# Altium footprint library BASIC Library.PCBLIB: 464 footprints (part 25 of 30)
Each footprint in its own frame and in the unit in brackets; x right, y up, seen from the top. Pads: shape width x height; smd on the part's side, far side on the other; paste and mask are expansions set on the pad; w line width, h text height; cw(c..) or ccw(c..) is an arc to the next point about the centre after c.
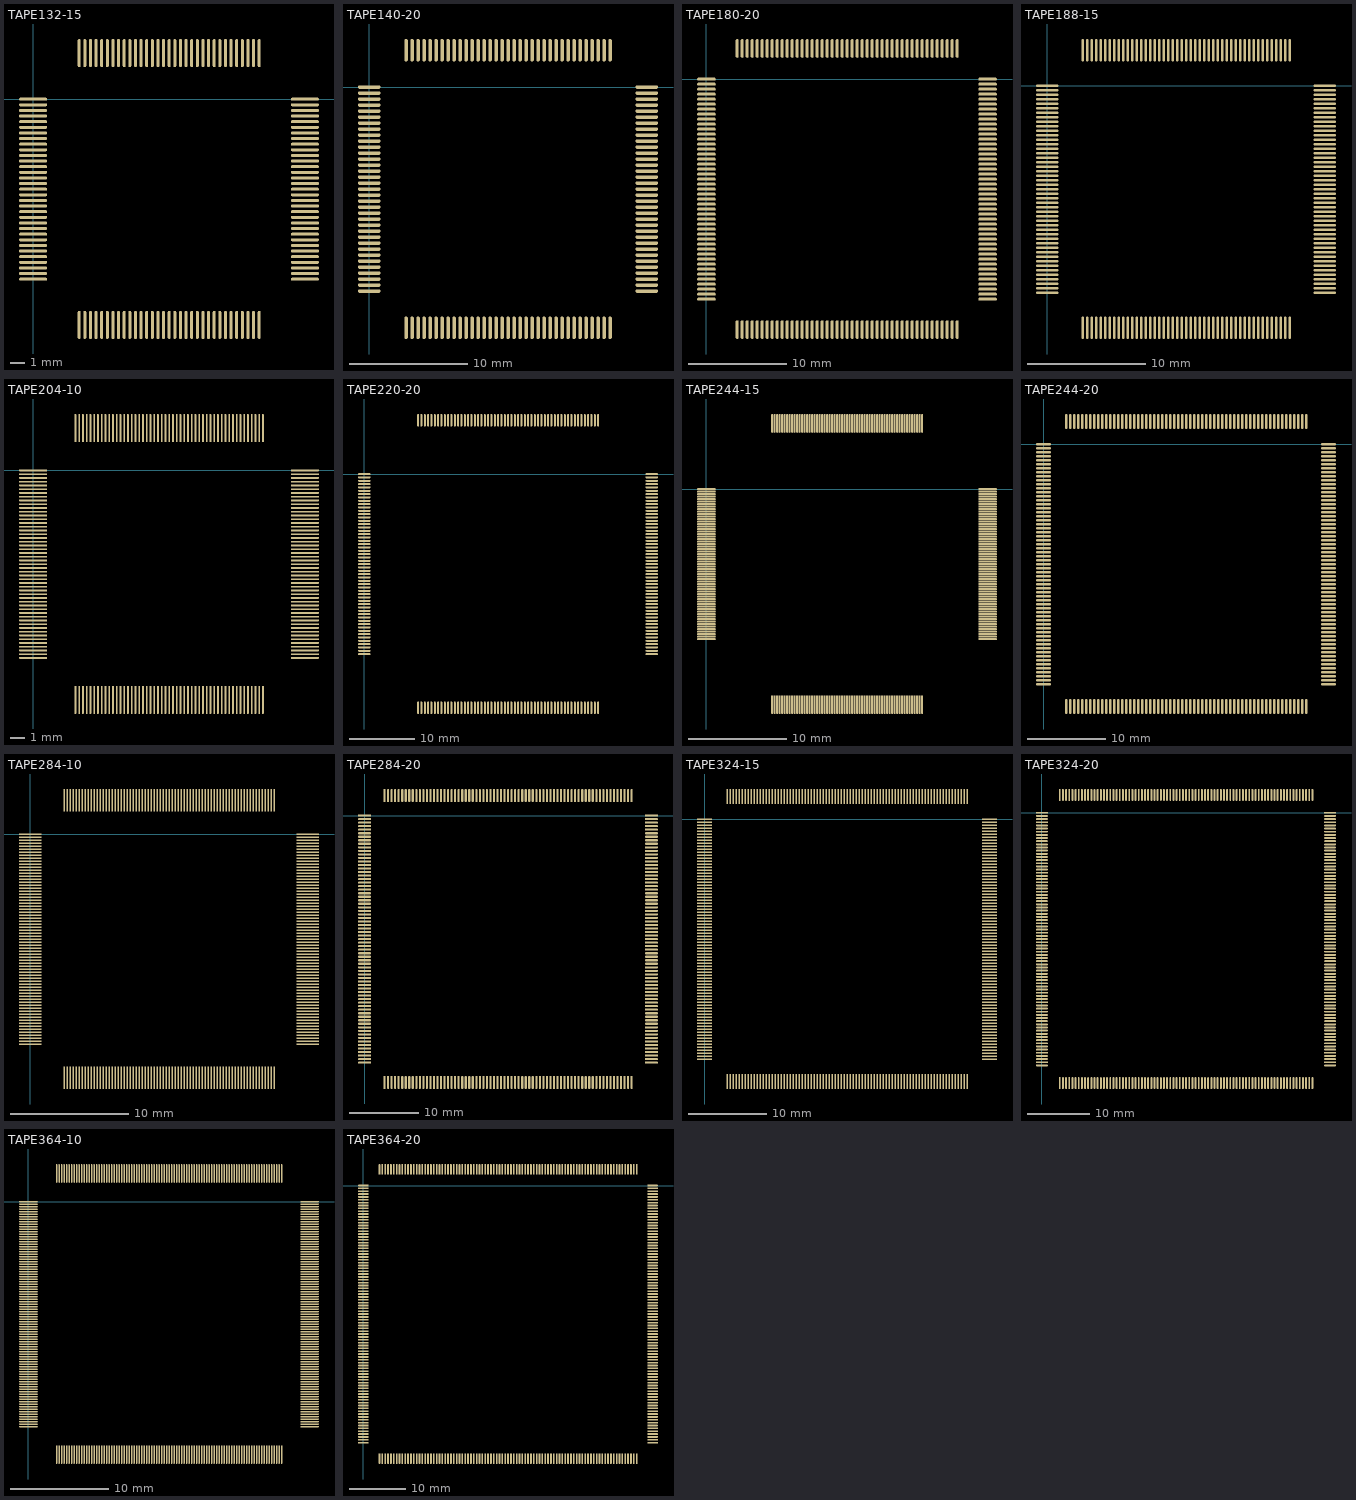
[diagram p24: the footprints below, top view; thin cyan lines are the x and y axes]

## TAPE132-15 [mil]
pads (132):
  oval 75x8 smd: 1(0,0) 2(0,-15) 3(0,-30) 4(0,-45) 5(0,-60) 6(0,-75) 7(0,-90) 8(0,-105) 9(0,-120) 10(0,-135) 11(0,-150) 12(0,-165) 13(0,-180) 14(0,-195) 15(0,-210) 16(0,-225) 17(0,-240) 18(0,-255) 19(0,-270) 20(0,-285) 21(0,-300) 22(0,-315) 23(0,-330) 24(0,-345) 25(0,-360) 26(0,-375) 27(0,-390) 28(0,-405) 29(0,-420) 30(0,-435) 31(0,-450) 32(0,-465) 33(0,-480) 67(725,-480) 68(725,-465) 69(725,-450) 70(725,-435) 71(725,-420) 72(725,-405) 73(725,-390) 74(725,-375) 75(725,-360) 76(725,-345) 77(725,-330) 78(725,-315) 79(725,-300) 80(725,-285) 81(725,-270) 82(725,-255) 83(725,-240) 84(725,-225) 85(725,-210) 86(725,-195) 87(725,-180) 88(725,-165) 89(725,-150) 90(725,-135) 91(725,-120) 92(725,-105) 93(725,-90) 94(725,-75) 95(725,-60) 96(725,-45) 97(725,-30) 98(725,-15) 99(725,0)
  oval 8x75 smd: 34(123,-602) 35(138,-602) 36(153,-602) 37(168,-602) 38(183,-602) 39(198,-602) 40(213,-602) 41(228,-602) 42(243,-602) 43(258,-602) 44(273,-602) 45(288,-602) 46(303,-602) 47(318,-602) 48(333,-602) 49(348,-602) 50(363,-602) 51(378,-602) 52(393,-602) 53(408,-602) 54(423,-602) 55(438,-602) 56(453,-602) 57(468,-602) 58(483,-602) 59(498,-602) 60(513,-602) 61(528,-602) 62(543,-602) 63(558,-602) 64(573,-602) 65(588,-602) 66(603,-602) 100(603,123) 101(588,123) 102(573,123) 103(558,123) 104(543,123) 105(528,123) 106(513,123) 107(498,123) 108(483,123) 109(468,123) 110(453,123) 111(438,123) 112(423,123) 113(408,123) 114(393,123) 115(378,123) 116(363,123) 117(348,123) 118(333,123) 119(318,123) 120(303,123) 121(288,123) 122(273,123) 123(258,123) 124(243,123) 125(228,123) 126(213,123) 127(198,123) 128(183,123) 129(168,123) 130(153,123) 131(138,123) 132(123,123)

## TAPE140-20 [mil]
pads (140):
  oval 75x12 smd: 1(0,0) 2(0,-20) 3(0,-40) 4(0,-60) 5(0,-80) 6(0,-100) 7(0,-120) 8(0,-140) 9(0,-160) 10(0,-180) 11(0,-200) 12(0,-220) 13(0,-240) 14(0,-260) 15(0,-280) 16(0,-300) 17(0,-320) 18(0,-340) 19(0,-360) 20(0,-380) 21(0,-400) 22(0,-420) 23(0,-440) 24(0,-460) 25(0,-480) 26(0,-500) 27(0,-520) 28(0,-540) 29(0,-560) 30(0,-580) 31(0,-600) 32(0,-620) 33(0,-640) 34(0,-660) 35(0,-680) 71(925,-680) 72(925,-660) 73(925,-640) 74(925,-620) 75(925,-600) 76(925,-580) 77(925,-560) 78(925,-540) 79(925,-520) 80(925,-500) 81(925,-480) 82(925,-460) 83(925,-440) 84(925,-420) 85(925,-400) 86(925,-380) 87(925,-360) 88(925,-340) 89(925,-320) 90(925,-300) 91(925,-280) 92(925,-260) 93(925,-240) 94(925,-220) 95(925,-200) 96(925,-180) 97(925,-160) 98(925,-140) 99(925,-120) 100(925,-100) 101(925,-80) 102(925,-60) 103(925,-40) 104(925,-20) 105(925,0)
  oval 12x75 smd: 36(123,-802) 37(143,-802) 38(163,-802) 39(183,-802) 40(203,-802) 41(223,-802) 42(243,-802) 43(263,-802) 44(283,-802) 45(303,-802) 46(323,-802) 47(343,-802) 48(363,-802) 49(383,-802) 50(403,-802) 51(423,-802) 52(443,-802) 53(463,-802) 54(483,-802) 55(503,-802) 56(523,-802) 57(543,-802) 58(563,-802) 59(583,-802) 60(603,-802) 61(623,-802) 62(643,-802) 63(663,-802) 64(683,-802) 65(703,-802) 66(723,-802) 67(743,-802) 68(763,-802) 69(783,-802) 70(803,-802) 106(803,123) 107(783,123) 108(763,123) 109(743,123) 110(723,123) 111(703,123) 112(683,123) 113(663,123) 114(643,123) 115(623,123) 116(603,123) 117(583,123) 118(563,123) 119(543,123) 120(523,123) 121(503,123) 122(483,123) 123(463,123) 124(443,123) 125(423,123) 126(403,123) 127(383,123) 128(363,123) 129(343,123) 130(323,123) 131(303,123) 132(283,123) 133(263,123) 134(243,123) 135(223,123) 136(203,123) 137(183,123) 138(163,123) 139(143,123) 140(123,123)

## TAPE180-20 [mil]
pads (180):
  oval 75x12 smd: 1(0,0) 2(0,-20) 3(0,-40) 4(0,-60) 5(0,-80) 6(0,-100) 7(0,-120) 8(0,-140) 9(0,-160) 10(0,-180) 11(0,-200) 12(0,-220) 13(0,-240) 14(0,-260) 15(0,-280) 16(0,-300) 17(0,-320) 18(0,-340) 19(0,-360) 20(0,-380) 21(0,-400) 22(0,-420) 23(0,-440) 24(0,-460) 25(0,-480) 26(0,-500) 27(0,-520) 28(0,-540) 29(0,-560) 30(0,-580) 31(0,-600) 32(0,-620) 33(0,-640) 34(0,-660) 35(0,-680) 36(0,-700) 37(0,-720) 38(0,-740) 39(0,-760) 40(0,-780) 41(0,-800) 42(0,-820) 43(0,-840) 44(0,-860) 45(0,-880) 91(1125,-880) 92(1125,-860) 93(1125,-840) 94(1125,-820) 95(1125,-800) 96(1125,-780) 97(1125,-760) 98(1125,-740) 99(1125,-720) 100(1125,-700) 101(1125,-680) 102(1125,-660) 103(1125,-640) 104(1125,-620) 105(1125,-600) 106(1125,-580) 107(1125,-560) 108(1125,-540) 109(1125,-520) 110(1125,-500) 111(1125,-480) 112(1125,-460) 113(1125,-440) 114(1125,-420) 115(1125,-400) 116(1125,-380) 117(1125,-360) 118(1125,-340) 119(1125,-320) 120(1125,-300) 121(1125,-280) 122(1125,-260) 123(1125,-240) 124(1125,-220) 125(1125,-200) 126(1125,-180) 127(1125,-160) 128(1125,-140) 129(1125,-120) 130(1125,-100) 131(1125,-80) 132(1125,-60) 133(1125,-40) 134(1125,-20) 135(1125,0)
  oval 12x75 smd: 46(123,-1002) 47(143,-1002) 48(163,-1002) 49(183,-1002) 50(203,-1002) 51(223,-1002) 52(243,-1002) 53(263,-1002) 54(283,-1002) 55(303,-1002) 56(323,-1002) 57(343,-1002) 58(363,-1002) 59(383,-1002) 60(403,-1002) 61(423,-1002) 62(443,-1002) 63(463,-1002) 64(483,-1002) 65(503,-1002) 66(523,-1002) 67(543,-1002) 68(563,-1002) 69(583,-1002) 70(603,-1002) 71(623,-1002) 72(643,-1002) 73(663,-1002) 74(683,-1002) 75(703,-1002) 76(723,-1002) 77(743,-1002) 78(763,-1002) 79(783,-1002) 80(803,-1002) 81(823,-1002) 82(843,-1002) 83(863,-1002) 84(883,-1002) 85(903,-1002) 86(923,-1002) 87(943,-1002) 88(963,-1002) 89(983,-1002) 90(1003,-1002) 136(1003,123) 137(983,123) 138(963,123) 139(943,123) 140(923,123) 141(903,123) 142(883,123) 143(863,123) 144(843,123) 145(823,123) 146(803,123) 147(783,123) 148(763,123) 149(743,123) 150(723,123) 151(703,123) 152(683,123) 153(663,123) 154(643,123) 155(623,123) 156(603,123) 157(583,123) 158(563,123) 159(543,123) 160(523,123) 161(503,123) 162(483,123) 163(463,123) 164(443,123) 165(423,123) 166(403,123) 167(383,123) 168(363,123) 169(343,123) 170(323,123) 171(303,123) 172(283,123) 173(263,123) 174(243,123) 175(223,123) 176(203,123) 177(183,123) 178(163,123) 179(143,123) 180(123,123)

## TAPE188-15 [mil]
pads (188):
  oval 75x8 smd: 1(0,0) 2(0,-15) 3(0,-30) 4(0,-45) 5(0,-60) 6(0,-75) 7(0,-90) 8(0,-105) 9(0,-120) 10(0,-135) 11(0,-150) 12(0,-165) 13(0,-180) 14(0,-195) 15(0,-210) 16(0,-225) 17(0,-240) 18(0,-255) 19(0,-270) 20(0,-285) 21(0,-300) 22(0,-315) 23(0,-330) 24(0,-345) 25(0,-360) 26(0,-375) 27(0,-390) 28(0,-405) 29(0,-420) 30(0,-435) 31(0,-450) 32(0,-465) 33(0,-480) 34(0,-495) 35(0,-510) 36(0,-525) 37(0,-540) 38(0,-555) 39(0,-570) 40(0,-585) 41(0,-600) 42(0,-615) 43(0,-630) 44(0,-645) 45(0,-660) 46(0,-675) 47(0,-690) 95(925,-690) 96(925,-675) 97(925,-660) 98(925,-645) 99(925,-630) 100(925,-615) 101(925,-600) 102(925,-585) 103(925,-570) 104(925,-555) 105(925,-540) 106(925,-525) 107(925,-510) 108(925,-495) 109(925,-480) 110(925,-465) 111(925,-450) 112(925,-435) 113(925,-420) 114(925,-405) 115(925,-390) 116(925,-375) 117(925,-360) 118(925,-345) 119(925,-330) 120(925,-315) 121(925,-300) 122(925,-285) 123(925,-270) 124(925,-255) 125(925,-240) 126(925,-225) 127(925,-210) 128(925,-195) 129(925,-180) 130(925,-165) 131(925,-150) 132(925,-135) 133(925,-120) 134(925,-105) 135(925,-90) 136(925,-75) 137(925,-60) 138(925,-45) 139(925,-30) 140(925,-15) 141(925,0)
  oval 8x75 smd: 48(118,-807) 49(133,-807) 50(148,-807) 51(163,-807) 52(178,-807) 53(193,-807) 54(208,-807) 55(223,-807) 56(238,-807) 57(253,-807) 58(268,-807) 59(283,-807) 60(298,-807) 61(313,-807) 62(328,-807) 63(343,-807) 64(358,-807) 65(373,-807) 66(388,-807) 67(403,-807) 68(418,-807) 69(433,-807) 70(448,-807) 71(463,-807) 72(478,-807) 73(493,-807) 74(508,-807) 75(523,-807) 76(538,-807) 77(553,-807) 78(568,-807) 79(583,-807) 80(598,-807) 81(613,-807) 82(628,-807) 83(643,-807) 84(658,-807) 85(673,-807) 86(688,-807) 87(703,-807) 88(718,-807) 89(733,-807) 90(748,-807) 91(763,-807) 92(778,-807) 93(793,-807) 94(808,-807) 142(808,118) 143(793,118) 144(778,118) 145(763,118) 146(748,118) 147(733,118) 148(718,118) 149(703,118) 150(688,118) 151(673,118) 152(658,118) 153(643,118) 154(628,118) 155(613,118) 156(598,118) 157(583,118) 158(568,118) 159(553,118) 160(538,118) 161(523,118) 162(508,118) 163(493,118) 164(478,118) 165(463,118) 166(448,118) 167(433,118) 168(418,118) 169(403,118) 170(388,118) 171(373,118) 172(358,118) 173(343,118) 174(328,118) 175(313,118) 176(298,118) 177(283,118) 178(268,118) 179(253,118) 180(238,118) 181(223,118) 182(208,118) 183(193,118) 184(178,118) 185(163,118) 186(148,118) 187(133,118) 188(118,118)

## TAPE204-10 [mil]
pads (204):
  oval 75x5 smd: 1(0,0) 2(0,-10) 3(0,-20) 4(0,-30) 5(0,-40) 6(0,-50) 7(0,-60) 8(0,-70) 9(0,-80) 10(0,-90) 11(0,-100) 12(0,-110) 13(0,-120) 14(0,-130) 15(0,-140) 16(0,-150) 17(0,-160) 18(0,-170) 19(0,-180) 20(0,-190) 21(0,-200) 22(0,-210) 23(0,-220) 24(0,-230) 25(0,-240) 26(0,-250) 27(0,-260) 28(0,-270) 29(0,-280) 30(0,-290) 31(0,-300) 32(0,-310) 33(0,-320) 34(0,-330) 35(0,-340) 36(0,-350) 37(0,-360) 38(0,-370) 39(0,-380) 40(0,-390) 41(0,-400) 42(0,-410) 43(0,-420) 44(0,-430) 45(0,-440) 46(0,-450) 47(0,-460) 48(0,-470) 49(0,-480) 50(0,-490) 51(0,-500) 103(725,-500) 104(725,-490) 105(725,-480) 106(725,-470) 107(725,-460) 108(725,-450) 109(725,-440) 110(725,-430) 111(725,-420) 112(725,-410) 113(725,-400) 114(725,-390) 115(725,-380) 116(725,-370) 117(725,-360) 118(725,-350) 119(725,-340) 120(725,-330) 121(725,-320) 122(725,-310) 123(725,-300) 124(725,-290) 125(725,-280) 126(725,-270) 127(725,-260) 128(725,-250) 129(725,-240) 130(725,-230) 131(725,-220) 132(725,-210) 133(725,-200) 134(725,-190) 135(725,-180) 136(725,-170) 137(725,-160) 138(725,-150) 139(725,-140) 140(725,-130) 141(725,-120) 142(725,-110) 143(725,-100) 144(725,-90) 145(725,-80) 146(725,-70) 147(725,-60) 148(725,-50) 149(725,-40) 150(725,-30) 151(725,-20) 152(725,-10) 153(725,0)
  oval 5x75 smd: 52(113,-612) 53(123,-612) 54(133,-612) 55(143,-612) 56(153,-612) 57(163,-612) 58(173,-612) 59(183,-612) 60(193,-612) 61(203,-612) 62(213,-612) 63(223,-612) 64(233,-612) 65(243,-612) 66(253,-612) 67(263,-612) 68(273,-612) 69(283,-612) 70(293,-612) 71(303,-612) 72(313,-612) 73(323,-612) 74(333,-612) 75(343,-612) 76(353,-612) 77(363,-612) 78(373,-612) 79(383,-612) 80(393,-612) 81(403,-612) 82(413,-612) 83(423,-612) 84(433,-612) 85(443,-612) 86(453,-612) 87(463,-612) 88(473,-612) 89(483,-612) 90(493,-612) 91(503,-612) 92(513,-612) 93(523,-612) 94(533,-612) 95(543,-612) 96(553,-612) 97(563,-612) 98(573,-612) 99(583,-612) 100(593,-612) 101(603,-612) 102(613,-612) 154(613,113) 155(603,113) 156(593,113) 157(583,113) 158(573,113) 159(563,113) 160(553,113) 161(543,113) 162(533,113) 163(523,113) 164(513,113) 165(503,113) 166(493,113) 167(483,113) 168(473,113) 169(463,113) 170(453,113) 171(443,113) 172(433,113) 173(423,113) 174(413,113) 175(403,113) 176(393,113) 177(383,113) 178(373,113) 179(363,113) 180(353,113) 181(343,113) 182(333,113) 183(323,113) 184(313,113) 185(303,113) 186(293,113) 187(283,113) 188(273,113) 189(263,113) 190(253,113) 191(243,113) 192(233,113) 193(223,113) 194(213,113) 195(203,113) 196(193,113) 197(183,113) 198(173,113) 199(163,113) 200(153,113) 201(143,113) 202(133,113) 203(123,113) 204(113,113)

## TAPE220-20 [mil]
pads (220):
  oval 75x12 smd: 1(0,0) 2(0,-20) 3(0,-40) 4(0,-60) 5(0,-80) 6(0,-100) 7(0,-120) 8(0,-140) 9(0,-160) 10(0,-180) 11(0,-200) 12(0,-220) 13(0,-240) 14(0,-260) 15(0,-280) 16(0,-300) 17(0,-320) 18(0,-340) 19(0,-360) 20(0,-380) 21(0,-400) 22(0,-420) 23(0,-440) 24(0,-460) 25(0,-480) 26(0,-500) 27(0,-520) 28(0,-540) 29(0,-560) 30(0,-580) 31(0,-600) 32(0,-620) 33(0,-640) 34(0,-660) 35(0,-680) 36(0,-700) 37(0,-720) 38(0,-740) 39(0,-760) 40(0,-780) 41(0,-800) 42(0,-820) 43(0,-840) 44(0,-860) 45(0,-880) 46(0,-900) 47(0,-920) 48(0,-940) 49(0,-960) 50(0,-980) 51(0,-1000) 52(0,-1020) 53(0,-1040) 54(0,-1060) 55(0,-1080) 111(1725,-1080) 112(1725,-1060) 113(1725,-1040) 114(1725,-1020) 115(1725,-1000) 116(1725,-980) 117(1725,-960) 118(1725,-940) 119(1725,-920) 120(1725,-900) 121(1725,-880) 122(1725,-860) 123(1725,-840) 124(1725,-820) 125(1725,-800) 126(1725,-780) 127(1725,-760) 128(1725,-740) 129(1725,-720) 130(1725,-700) 131(1725,-680) 132(1725,-660) 133(1725,-640) 134(1725,-620) 135(1725,-600) 136(1725,-580) 137(1725,-560) 138(1725,-540) 139(1725,-520) 140(1725,-500) 141(1725,-480) 142(1725,-460) 143(1725,-440) 144(1725,-420) 145(1725,-400) 146(1725,-380) 147(1725,-360) 148(1725,-340) 149(1725,-320) 150(1725,-300) 151(1725,-280) 152(1725,-260) 153(1725,-240) 154(1725,-220) 155(1725,-200) 156(1725,-180) 157(1725,-160) 158(1725,-140) 159(1725,-120) 160(1725,-100) 161(1725,-80) 162(1725,-60) 163(1725,-40) 164(1725,-20) 165(1725,0)
  oval 12x75 smd: 56(323,-1402) 57(343,-1402) 58(363,-1402) 59(383,-1402) 60(403,-1402) 61(423,-1402) 62(443,-1402) 63(463,-1402) 64(483,-1402) 65(503,-1402) 66(523,-1402) 67(543,-1402) 68(563,-1402) 69(583,-1402) 70(603,-1402) 71(623,-1402) 72(643,-1402) 73(663,-1402) 74(683,-1402) 75(703,-1402) 76(723,-1402) 77(743,-1402) 78(763,-1402) 79(783,-1402) 80(803,-1402) 81(823,-1402) 82(843,-1402) 83(863,-1402) 84(883,-1402) 85(903,-1402) 86(923,-1402) 87(943,-1402) 88(963,-1402) 89(983,-1402) 90(1003,-1402) 91(1023,-1402) 92(1043,-1402) 93(1063,-1402) 94(1083,-1402) 95(1103,-1402) 96(1123,-1402) 97(1143,-1402) 98(1163,-1402) 99(1183,-1402) 100(1203,-1402) 101(1223,-1402) 102(1243,-1402) 103(1263,-1402) 104(1283,-1402) 105(1303,-1402) 106(1323,-1402) 107(1343,-1402) 108(1363,-1402) 109(1383,-1402) 110(1403,-1402) 166(1403,323) 167(1383,323) 168(1363,323) 169(1343,323) 170(1323,323) 171(1303,323) 172(1283,323) 173(1263,323) 174(1243,323) 175(1223,323) 176(1203,323) 177(1183,323) 178(1163,323) 179(1143,323) 180(1123,323) 181(1103,323) 182(1083,323) 183(1063,323) 184(1043,323) 185(1023,323) 186(1003,323) 187(983,323) 188(963,323) 189(943,323) 190(923,323) 191(903,323) 192(883,323) 193(863,323) 194(843,323) 195(823,323) 196(803,323) 197(783,323) 198(763,323) 199(743,323) 200(723,323) 201(703,323) 202(683,323) 203(663,323) 204(643,323) 205(623,323) 206(603,323) 207(583,323) 208(563,323) 209(543,323) 210(523,323) 211(503,323) 212(483,323) 213(463,323) 214(443,323) 215(423,323) 216(403,323) 217(383,323) 218(363,323) 219(343,323) 220(323,323)

## TAPE244-15 [mil]
pads (244):
  oval 75x8 smd: 1(0,0) 2(0,-10) 3(0,-20) 4(0,-30) 5(0,-40) 6(0,-50) 7(0,-60) 8(0,-70) 9(0,-80) 10(0,-90) 11(0,-100) 12(0,-110) 13(0,-120) 14(0,-130) 15(0,-140) 16(0,-150) 17(0,-160) 18(0,-170) 19(0,-180) 20(0,-190) 21(0,-200) 22(0,-210) 23(0,-220) 24(0,-230) 25(0,-240) 26(0,-250) 27(0,-260) 28(0,-270) 29(0,-280) 30(0,-290) 31(0,-300) 32(0,-310) 33(0,-320) 34(0,-330) 35(0,-340) 36(0,-350) 37(0,-360) 38(0,-370) 39(0,-380) 40(0,-390) 41(0,-400) 42(0,-410) 43(0,-420) 44(0,-430) 45(0,-440) 46(0,-450) 47(0,-460) 48(0,-470) 49(0,-480) 50(0,-490) 51(0,-500) 52(0,-510) 53(0,-520) 54(0,-530) 55(0,-540) 56(0,-550) 57(0,-560) 58(0,-570) 59(0,-580) 60(0,-590) 61(0,-600) 123(1125,-600) 124(1125,-590) 125(1125,-580) 126(1125,-570) 127(1125,-560) 128(1125,-550) 129(1125,-540) 130(1125,-530) 131(1125,-520) 132(1125,-510) 133(1125,-500) 134(1125,-490) 135(1125,-480) 136(1125,-470) 137(1125,-460) 138(1125,-450) 139(1125,-440) 140(1125,-430) 141(1125,-420) 142(1125,-410) 143(1125,-400) 144(1125,-390) 145(1125,-380) 146(1125,-370) 147(1125,-360) 148(1125,-350) 149(1125,-340) 150(1125,-330) 151(1125,-320) 152(1125,-310) 153(1125,-300) 154(1125,-290) 155(1125,-280) 156(1125,-270) 157(1125,-260) 158(1125,-250) 159(1125,-240) 160(1125,-230) 161(1125,-220) 162(1125,-210) 163(1125,-200) 164(1125,-190) 165(1125,-180) 166(1125,-170) 167(1125,-160) 168(1125,-150) 169(1125,-140) 170(1125,-130) 171(1125,-120) 172(1125,-110) 173(1125,-100) 174(1125,-90) 175(1125,-80) 176(1125,-70) 177(1125,-60) 178(1125,-50) 179(1125,-40) 180(1125,-30) 181(1125,-20) 182(1125,-10) 183(1125,0)
  oval 8x75 smd: 62(263,-862) 63(273,-862) 64(283,-862) 65(293,-862) 66(303,-862) 67(313,-862) 68(323,-862) 69(333,-862) 70(343,-862) 71(353,-862) 72(363,-862) 73(373,-862) 74(383,-862) 75(393,-862) 76(403,-862) 77(413,-862) 78(423,-862) 79(433,-862) 80(443,-862) 81(453,-862) 82(463,-862) 83(473,-862) 84(483,-862) 85(493,-862) 86(503,-862) 87(513,-862) 88(523,-862) 89(533,-862) 90(543,-862) 91(553,-862) 92(563,-862) 93(573,-862) 94(583,-862) 95(593,-862) 96(603,-862) 97(613,-862) 98(623,-862) 99(633,-862) 100(643,-862) 101(653,-862) 102(663,-862) 103(673,-862) 104(683,-862) 105(693,-862) 106(703,-862) 107(713,-862) 108(723,-862) 109(733,-862) 110(743,-862) 111(753,-862) 112(763,-862) 113(773,-862) 114(783,-862) 115(793,-862) 116(803,-862) 117(813,-862) 118(823,-862) 119(833,-862) 120(843,-862) 121(853,-862) 122(863,-862) 184(863,263) 185(853,263) 186(843,263) 187(833,263) 188(823,263) 189(813,263) 190(803,263) 191(793,263) 192(783,263) 193(773,263) 194(763,263) 195(753,263) 196(743,263) 197(733,263) 198(723,263) 199(713,263) 200(703,263) 201(693,263) 202(683,263) 203(673,263) 204(663,263) 205(653,263) 206(643,263) 207(633,263) 208(623,263) 209(613,263) 210(603,263) 211(593,263) 212(583,263) 213(573,263) 214(563,263) 215(553,263) 216(543,263) 217(533,263) 218(523,263) 219(513,263) 220(503,263) 221(493,263) 222(483,263) 223(473,263) 224(463,263) 225(453,263) 226(443,263) 227(433,263) 228(423,263) 229(413,263) 230(403,263) 231(393,263) 232(383,263) 233(373,263) 234(363,263) 235(353,263) 236(343,263) 237(333,263) 238(323,263) 239(313,263) 240(303,263) 241(293,263) 242(283,263) 243(273,263) 244(263,263)

## TAPE244-20 [mil]
pads (244):
  oval 75x12 smd: 1(0,0) 2(0,-20) 3(0,-40) 4(0,-60) 5(0,-80) 6(0,-100) 7(0,-120) 8(0,-140) 9(0,-160) 10(0,-180) 11(0,-200) 12(0,-220) 13(0,-240) 14(0,-260) 15(0,-280) 16(0,-300) 17(0,-320) 18(0,-340) 19(0,-360) 20(0,-380) 21(0,-400) 22(0,-420) 23(0,-440) 24(0,-460) 25(0,-480) 26(0,-500) 27(0,-520) 28(0,-540) 29(0,-560) 30(0,-580) 31(0,-600) 32(0,-620) 33(0,-640) 34(0,-660) 35(0,-680) 36(0,-700) 37(0,-720) 38(0,-740) 39(0,-760) 40(0,-780) 41(0,-800) 42(0,-820) 43(0,-840) 44(0,-860) 45(0,-880) 46(0,-900) 47(0,-920) 48(0,-940) 49(0,-960) 50(0,-980) 51(0,-1000) 52(0,-1020) 53(0,-1040) 54(0,-1060) 55(0,-1080) 56(0,-1100) 57(0,-1120) 58(0,-1140) 59(0,-1160) 60(0,-1180) 61(0,-1200) 123(1425,-1200) 124(1425,-1180) 125(1425,-1160) 126(1425,-1140) 127(1425,-1120) 128(1425,-1100) 129(1425,-1080) 130(1425,-1060) 131(1425,-1040) 132(1425,-1020) 133(1425,-1000) 134(1425,-980) 135(1425,-960) 136(1425,-940) 137(1425,-920) 138(1425,-900) 139(1425,-880) 140(1425,-860) 141(1425,-840) 142(1425,-820) 143(1425,-800) 144(1425,-780) 145(1425,-760) 146(1425,-740) 147(1425,-720) 148(1425,-700) 149(1425,-680) 150(1425,-660) 151(1425,-640) 152(1425,-620) 153(1425,-600) 154(1425,-580) 155(1425,-560) 156(1425,-540) 157(1425,-520) 158(1425,-500) 159(1425,-480) 160(1425,-460) 161(1425,-440) 162(1425,-420) 163(1425,-400) 164(1425,-380) 165(1425,-360) 166(1425,-340) 167(1425,-320) 168(1425,-300) 169(1425,-280) 170(1425,-260) 171(1425,-240) 172(1425,-220) 173(1425,-200) 174(1425,-180) 175(1425,-160) 176(1425,-140) 177(1425,-120) 178(1425,-100) 179(1425,-80) 180(1425,-60) 181(1425,-40) 182(1425,-20) 183(1425,0)
  oval 12x75 smd: 62(113,-1312) 63(133,-1312) 64(153,-1312) 65(173,-1312) 66(193,-1312) 67(213,-1312) 68(233,-1312) 69(253,-1312) 70(273,-1312) 71(293,-1312) 72(313,-1312) 73(333,-1312) 74(353,-1312) 75(373,-1312) 76(393,-1312) 77(413,-1312) 78(433,-1312) 79(453,-1312) 80(473,-1312) 81(493,-1312) 82(513,-1312) 83(533,-1312) 84(553,-1312) 85(573,-1312) 86(593,-1312) 87(613,-1312) 88(633,-1312) 89(653,-1312) 90(673,-1312) 91(693,-1312) 92(713,-1312) 93(733,-1312) 94(753,-1312) 95(773,-1312) 96(793,-1312) 97(813,-1312) 98(833,-1312) 99(853,-1312) 100(873,-1312) 101(893,-1312) 102(913,-1312) 103(933,-1312) 104(953,-1312) 105(973,-1312) 106(993,-1312) 107(1013,-1312) 108(1033,-1312) 109(1053,-1312) 110(1073,-1312) 111(1093,-1312) 112(1113,-1312) 113(1133,-1312) 114(1153,-1312) 115(1173,-1312) 116(1193,-1312) 117(1213,-1312) 118(1233,-1312) 119(1253,-1312) 120(1273,-1312) 121(1293,-1312) 122(1313,-1312) 184(1313,113) 185(1293,113) 186(1273,113) 187(1253,113) 188(1233,113) 189(1213,113) 190(1193,113) 191(1173,113) 192(1153,113) 193(1133,113) 194(1113,113) 195(1093,113) 196(1073,113) 197(1053,113) 198(1033,113) 199(1013,113) 200(993,113) 201(973,113) 202(953,113) 203(933,113) 204(913,113) 205(893,113) 206(873,113) 207(853,113) 208(833,113) 209(813,113) 210(793,113) 211(773,113) 212(753,113) 213(733,113) 214(713,113) 215(693,113) 216(673,113) 217(653,113) 218(633,113) 219(613,113) 220(593,113) 221(573,113) 222(553,113) 223(533,113) 224(513,113) 225(493,113) 226(473,113) 227(453,113) 228(433,113) 229(413,113) 230(393,113) 231(373,113) 232(353,113) 233(333,113) 234(313,113) 235(293,113) 236(273,113) 237(253,113) 238(233,113) 239(213,113) 240(193,113) 241(173,113) 242(153,113) 243(133,113) 244(113,113)

## TAPE284-10 [mil]
pads (284):
  oval 75x5 smd: 1(0,0) 2(0,-10) 3(0,-20) 4(0,-30) 5(0,-40) 6(0,-50) 7(0,-60) 8(0,-70) 9(0,-80) 10(0,-90) 11(0,-100) 12(0,-110) 13(0,-120) 14(0,-130) 15(0,-140) 16(0,-150) 17(0,-160) 18(0,-170) 19(0,-180) 20(0,-190) 21(0,-200) 22(0,-210) 23(0,-220) 24(0,-230) 25(0,-240) 26(0,-250) 27(0,-260) 28(0,-270) 29(0,-280) 30(0,-290) 31(0,-300) 32(0,-310) 33(0,-320) 34(0,-330) 35(0,-340) 36(0,-350) 37(0,-360) 38(0,-370) 39(0,-380) 40(0,-390) 41(0,-400) 42(0,-410) 43(0,-420) 44(0,-430) 45(0,-440) 46(0,-450) 47(0,-460) 48(0,-470) 49(0,-480) 50(0,-490) 51(0,-500) 52(0,-510) 53(0,-520) 54(0,-530) 55(0,-540) 56(0,-550) 57(0,-560) 58(0,-570) 59(0,-580) 60(0,-590) 61(0,-600) 62(0,-610) 63(0,-620) 64(0,-630) 65(0,-640) 66(0,-650) 67(0,-660) 68(0,-670) 69(0,-680) 70(0,-690) 71(0,-700) 143(925,-700) 144(925,-690) 145(925,-680) 146(925,-670) 147(925,-660) 148(925,-650) 149(925,-640) 150(925,-630) 151(925,-620) 152(925,-610) 153(925,-600) 154(925,-590) 155(925,-580) 156(925,-570) 157(925,-560) 158(925,-550) 159(925,-540) 160(925,-530) 161(925,-520) 162(925,-510) 163(925,-500) 164(925,-490) 165(925,-480) 166(925,-470) 167(925,-460) 168(925,-450) 169(925,-440) 170(925,-430) 171(925,-420) 172(925,-410) 173(925,-400) 174(925,-390) 175(925,-380) 176(925,-370) 177(925,-360) 178(925,-350) 179(925,-340) 180(925,-330) 181(925,-320) 182(925,-310) 183(925,-300) 184(925,-290) 185(925,-280) 186(925,-270) 187(925,-260) 188(925,-250) 189(925,-240) 190(925,-230) 191(925,-220) 192(925,-210) 193(925,-200) 194(925,-190) 195(925,-180) 196(925,-170) 197(925,-160) 198(925,-150) 199(925,-140) 200(925,-130) 201(925,-120) 202(925,-110) 203(925,-100) 204(925,-90) 205(925,-80) 206(925,-70) 207(925,-60) 208(925,-50) 209(925,-40) 210(925,-30) 211(925,-20) 212(925,-10) 213(925,0)
  oval 5x75 smd: 72(113,-812) 73(123,-812) 74(133,-812) 75(143,-812) 76(153,-812) 77(163,-812) 78(173,-812) 79(183,-812) 80(193,-812) 81(203,-812) 82(213,-812) 83(223,-812) 84(233,-812) 85(243,-812) 86(253,-812) 87(263,-812) 88(273,-812) 89(283,-812) 90(293,-812) 91(303,-812) 92(313,-812) 93(323,-812) 94(333,-812) 95(343,-812) 96(353,-812) 97(363,-812) 98(373,-812) 99(383,-812) 100(393,-812) 101(403,-812) 102(413,-812) 103(423,-812) 104(433,-812) 105(443,-812) 106(453,-812) 107(463,-812) 108(473,-812) 109(483,-812) 110(493,-812) 111(503,-812) 112(513,-812) 113(523,-812) 114(533,-812) 115(543,-812) 116(553,-812) 117(563,-812) 118(573,-812) 119(583,-812) 120(593,-812) 121(603,-812) 122(613,-812) 123(623,-812) 124(633,-812) 125(643,-812) 126(653,-812) 127(663,-812) 128(673,-812) 129(683,-812) 130(693,-812) 131(703,-812) 132(713,-812) 133(723,-812) 134(733,-812) 135(743,-812) 136(753,-812) 137(763,-812) 138(773,-812) 139(783,-812) 140(793,-812) 141(803,-812) 142(813,-812) 214(813,113) 215(803,113) 216(793,113) 217(783,113) 218(773,113) 219(763,113) 220(753,113) 221(743,113) 222(733,113) 223(723,113) 224(713,113) 225(703,113) 226(693,113) 227(683,113) 228(673,113) 229(663,113) 230(653,113) 231(643,113) 232(633,113) 233(623,113) 234(613,113) 235(603,113) 236(593,113) 237(583,113) 238(573,113) 239(563,113) 240(553,113) 241(543,113) 242(533,113) 243(523,113) 244(513,113) 245(503,113) 246(493,113) 247(483,113) 248(473,113) 249(463,113) 250(453,113) 251(443,113) 252(433,113) 253(423,113) 254(413,113) 255(403,113) 256(393,113) 257(383,113) 258(373,113) 259(363,113) 260(353,113) 261(343,113) 262(333,113) 263(323,113) 264(313,113) 265(303,113) 266(293,113) 267(283,113) 268(273,113) 269(263,113) 270(253,113) 271(243,113) 272(233,113) 273(223,113) 274(213,113) 275(203,113) 276(193,113) 277(183,113) 278(173,113) 279(163,113) 280(153,113) 281(143,113) 282(133,113) 283(123,113) 284(113,113)

## TAPE284-20 [mil]
pads (284):
  oval 75x12 smd: 1(0,0) 2(0,-20) 3(0,-40) 4(0,-60) 5(0,-80) 6(0,-100) 7(0,-120) 8(0,-140) 9(0,-160) 10(0,-180) 11(0,-200) 12(0,-220) 13(0,-240) 14(0,-260) 15(0,-280) 16(0,-300) 17(0,-320) 18(0,-340) 19(0,-360) 20(0,-380) 21(0,-400) 22(0,-420) 23(0,-440) 24(0,-460) 25(0,-480) 26(0,-500) 27(0,-520) 28(0,-540) 29(0,-560) 30(0,-580) 31(0,-600) 32(0,-620) 33(0,-640) 34(0,-660) 35(0,-680) 36(0,-700) 37(0,-720) 38(0,-740) 39(0,-760) 40(0,-780) 41(0,-800) 42(0,-820) 43(0,-840) 44(0,-860) 45(0,-880) 46(0,-900) 47(0,-920) 48(0,-940) 49(0,-960) 50(0,-980) 51(0,-1000) 52(0,-1020) 53(0,-1040) 54(0,-1060) 55(0,-1080) 56(0,-1100) 57(0,-1120) 58(0,-1140) 59(0,-1160) 60(0,-1180) 61(0,-1200) 62(0,-1220) 63(0,-1240) 64(0,-1260) 65(0,-1280) 66(0,-1300) 67(0,-1320) 68(0,-1340) 69(0,-1360) 70(0,-1380) 71(0,-1400) 143(1625,-1400) 144(1625,-1380) 145(1625,-1360) 146(1625,-1340) 147(1625,-1320) 148(1625,-1300) 149(1625,-1280) 150(1625,-1260) 151(1625,-1240) 152(1625,-1220) 153(1625,-1200) 154(1625,-1180) 155(1625,-1160) 156(1625,-1140) 157(1625,-1120) 158(1625,-1100) 159(1625,-1080) 160(1625,-1060) 161(1625,-1040) 162(1625,-1020) 163(1625,-1000) 164(1625,-980) 165(1625,-960) 166(1625,-940) 167(1625,-920) 168(1625,-900) 169(1625,-880) 170(1625,-860) 171(1625,-840) 172(1625,-820) 173(1625,-800) 174(1625,-780) 175(1625,-760) 176(1625,-740) 177(1625,-720) 178(1625,-700) 179(1625,-680) 180(1625,-660) 181(1625,-640) 182(1625,-620) 183(1625,-600) 184(1625,-580) 185(1625,-560) 186(1625,-540) 187(1625,-520) 188(1625,-500) 189(1625,-480) 190(1625,-460) 191(1625,-440) 192(1625,-420) 193(1625,-400) 194(1625,-380) 195(1625,-360) 196(1625,-340) 197(1625,-320) 198(1625,-300) 199(1625,-280) 200(1625,-260) 201(1625,-240) 202(1625,-220) 203(1625,-200) 204(1625,-180) 205(1625,-160) 206(1625,-140) 207(1625,-120) 208(1625,-100) 209(1625,-80) 210(1625,-60) 211(1625,-40) 212(1625,-20) 213(1625,0)
  oval 12x75 smd: 72(113,-1512) 73(133,-1512) 74(153,-1512) 75(173,-1512) 76(193,-1512) 77(213,-1512) 78(233,-1512) 79(253,-1512) 80(273,-1512) 81(293,-1512) 82(313,-1512) 83(333,-1512) 84(353,-1512) 85(373,-1512) 86(393,-1512) 87(413,-1512) 88(433,-1512) 89(453,-1512) 90(473,-1512) 91(493,-1512) 92(513,-1512) 93(533,-1512) 94(553,-1512) 95(573,-1512) 96(593,-1512) 97(613,-1512) 98(633,-1512) 99(653,-1512) 100(673,-1512) 101(693,-1512) 102(713,-1512) 103(733,-1512) 104(753,-1512) 105(773,-1512) 106(793,-1512) 107(813,-1512) 108(833,-1512) 109(853,-1512) 110(873,-1512) 111(893,-1512) 112(913,-1512) 113(933,-1512) 114(953,-1512) 115(973,-1512) 116(993,-1512) 117(1013,-1512) 118(1033,-1512) 119(1053,-1512) 120(1073,-1512) 121(1093,-1512) 122(1113,-1512) 123(1133,-1512) 124(1153,-1512) 125(1173,-1512) 126(1193,-1512) 127(1213,-1512) 128(1233,-1512) 129(1253,-1512) 130(1273,-1512) 131(1293,-1512) 132(1313,-1512) 133(1333,-1512) 134(1353,-1512) 135(1373,-1512) 136(1393,-1512) 137(1413,-1512) 138(1433,-1512) 139(1453,-1512) 140(1473,-1512) 141(1493,-1512) 142(1513,-1512) 214(1513,113) 215(1493,113) 216(1473,113) 217(1453,113) 218(1433,113) 219(1413,113) 220(1393,113) 221(1373,113) 222(1353,113) 223(1333,113) 224(1313,113) 225(1293,113) 226(1273,113) 227(1253,113) 228(1233,113) 229(1213,113) 230(1193,113) 231(1173,113) 232(1153,113) 233(1133,113) 234(1113,113) 235(1093,113) 236(1073,113) 237(1053,113) 238(1033,113) 239(1013,113) 240(993,113) 241(973,113) 242(953,113) 243(933,113) 244(913,113) 245(893,113) 246(873,113) 247(853,113) 248(833,113) 249(813,113) 250(793,113) 251(773,113) 252(753,113) 253(733,113) 254(713,113) 255(693,113) 256(673,113) 257(653,113) 258(633,113) 259(613,113) 260(593,113) 261(573,113) 262(553,113) 263(533,113) 264(513,113) 265(493,113) 266(473,113) 267(453,113) 268(433,113) 269(413,113) 270(393,113) 271(373,113) 272(353,113) 273(333,113) 274(313,113) 275(293,113) 276(273,113) 277(253,113) 278(233,113) 279(213,113) 280(193,113) 281(173,113) 282(153,113) 283(133,113) 284(113,113)

## TAPE324-15 [mil]
pads (324):
  oval 75x8 smd: 1(0,0) 2(0,-15) 3(0,-30) 4(0,-45) 5(0,-60) 6(0,-75) 7(0,-90) 8(0,-105) 9(0,-120) 10(0,-135) 11(0,-150) 12(0,-165) 13(0,-180) 14(0,-195) 15(0,-210) 16(0,-225) 17(0,-240) 18(0,-255) 19(0,-270) 20(0,-285) 21(0,-300) 22(0,-315) 23(0,-330) 24(0,-345) 25(0,-360) 26(0,-375) 27(0,-390) 28(0,-405) 29(0,-420) 30(0,-435) 31(0,-450) 32(0,-465) 33(0,-480) 34(0,-495) 35(0,-510) 36(0,-525) 37(0,-540) 38(0,-555) 39(0,-570) 40(0,-585) 41(0,-600) 42(0,-615) 43(0,-630) 44(0,-645) 45(0,-660) 46(0,-675) 47(0,-690) 48(0,-705) 49(0,-720) 50(0,-735) 51(0,-750) 52(0,-765) 53(0,-780) 54(0,-795) 55(0,-810) 56(0,-825) 57(0,-840) 58(0,-855) 59(0,-870) 60(0,-885) 61(0,-900) 62(0,-915) 63(0,-930) 64(0,-945) 65(0,-960) 66(0,-975) 67(0,-990) 68(0,-1005) 69(0,-1020) 70(0,-1035) 71(0,-1050) 72(0,-1065) 73(0,-1080) 74(0,-1095) 75(0,-1110) 76(0,-1125) 77(0,-1140) 78(0,-1155) 79(0,-1170) 80(0,-1185) 81(0,-1200) 163(1425,-1200) 164(1425,-1185) 165(1425,-1170) 166(1425,-1155) 167(1425,-1140) 168(1425,-1125) 169(1425,-1110) 170(1425,-1095) 171(1425,-1080) 172(1425,-1065) 173(1425,-1050) 174(1425,-1035) 175(1425,-1020) 176(1425,-1005) 177(1425,-990) 178(1425,-975) 179(1425,-960) 180(1425,-945) 181(1425,-930) 182(1425,-915) 183(1425,-900) 184(1425,-885) 185(1425,-870) 186(1425,-855) 187(1425,-840) 188(1425,-825) 189(1425,-810) 190(1425,-795) 191(1425,-780) 192(1425,-765) 193(1425,-750) 194(1425,-735) 195(1425,-720) 196(1425,-705) 197(1425,-690) 198(1425,-675) 199(1425,-660) 200(1425,-645) 201(1425,-630) 202(1425,-615) 203(1425,-600) 204(1425,-585) 205(1425,-570) 206(1425,-555) 207(1425,-540) 208(1425,-525) 209(1425,-510) 210(1425,-495) 211(1425,-480) 212(1425,-465) 213(1425,-450) 214(1425,-435) 215(1425,-420) 216(1425,-405) 217(1425,-390) 218(1425,-375) 219(1425,-360) 220(1425,-345) 221(1425,-330) 222(1425,-315) 223(1425,-300) 224(1425,-285) 225(1425,-270) 226(1425,-255) 227(1425,-240) 228(1425,-225) 229(1425,-210) 230(1425,-195) 231(1425,-180) 232(1425,-165) 233(1425,-150) 234(1425,-135) 235(1425,-120) 236(1425,-105) 237(1425,-90) 238(1425,-75) 239(1425,-60) 240(1425,-45) 241(1425,-30) 242(1425,-15) 243(1425,0)
  oval 8x75 smd: 82(113,-1312) 83(128,-1312) 84(143,-1312) 85(158,-1312) 86(173,-1312) 87(188,-1312) 88(203,-1312) 89(218,-1312) 90(233,-1312) 91(248,-1312) 92(263,-1312) 93(278,-1312) 94(293,-1312) 95(308,-1312) 96(323,-1312) 97(338,-1312) 98(353,-1312) 99(368,-1312) 100(383,-1312) 101(398,-1312) 102(413,-1312) 103(428,-1312) 104(443,-1312) 105(458,-1312) 106(473,-1312) 107(488,-1312) 108(503,-1312) 109(518,-1312) 110(533,-1312) 111(548,-1312) 112(563,-1312) 113(578,-1312) 114(593,-1312) 115(608,-1312) 116(623,-1312) 117(638,-1312) 118(653,-1312) 119(668,-1312) 120(683,-1312) 121(698,-1312) 122(713,-1312) 123(728,-1312) 124(743,-1312) 125(758,-1312) 126(773,-1312) 127(788,-1312) 128(803,-1312) 129(818,-1312) 130(833,-1312) 131(848,-1312) 132(863,-1312) 133(878,-1312) 134(893,-1312) 135(908,-1312) 136(923,-1312) 137(938,-1312) 138(953,-1312) 139(968,-1312) 140(983,-1312) 141(998,-1312) 142(1013,-1312) 143(1028,-1312) 144(1043,-1312) 145(1058,-1312) 146(1073,-1312) 147(1088,-1312) 148(1103,-1312) 149(1118,-1312) 150(1133,-1312) 151(1148,-1312) 152(1163,-1312) 153(1178,-1312) 154(1193,-1312) 155(1208,-1312) 156(1223,-1312) 157(1238,-1312) 158(1253,-1312) 159(1268,-1312) 160(1283,-1312) 161(1298,-1312) 162(1313,-1312) 244(1313,113) 245(1298,113) 246(1283,113) 247(1268,113) 248(1253,113) 249(1238,113) 250(1223,113) 251(1208,113) 252(1193,113) 253(1178,113) 254(1163,113) 255(1148,113) 256(1133,113) 257(1118,113) 258(1103,113) 259(1088,113) 260(1073,113) 261(1058,113) 262(1043,113) 263(1028,113) 264(1013,113) 265(998,113) 266(983,113) 267(968,113) 268(953,113) 269(938,113) 270(923,113) 271(908,113) 272(893,113) 273(878,113) 274(863,113) 275(848,113) 276(833,113) 277(818,113) 278(803,113) 279(788,113) 280(773,113) 281(758,113) 282(743,113) 283(728,113) 284(713,113) 285(698,113) 286(683,113) 287(668,113) 288(653,113) 289(638,113) 290(623,113) 291(608,113) 292(593,113) 293(578,113) 294(563,113) 295(548,113) 296(533,113) 297(518,113) 298(503,113) 299(488,113) 300(473,113) 301(458,113) 302(443,113) 303(428,113) 304(413,113) 305(398,113) 306(383,113) 307(368,113) 308(353,113) 309(338,113) 310(323,113) 311(308,113) 312(293,113) 313(278,113) 314(263,113) 315(248,113) 316(233,113) 317(218,113) 318(203,113) 319(188,113) 320(173,113) 321(158,113) 322(143,113) 323(128,113) 324(113,113)

## TAPE324-20 [mil]
pads (324):
  oval 75x12 smd: 1(0,0) 2(0,-20) 3(0,-40) 4(0,-60) 5(0,-80) 6(0,-100) 7(0,-120) 8(0,-140) 9(0,-160) 10(0,-180) 11(0,-200) 12(0,-220) 13(0,-240) 14(0,-260) 15(0,-280) 16(0,-300) 17(0,-320) 18(0,-340) 19(0,-360) 20(0,-380) 21(0,-400) 22(0,-420) 23(0,-440) 24(0,-460) 25(0,-480) 26(0,-500) 27(0,-520) 28(0,-540) 29(0,-560) 30(0,-580) 31(0,-600) 32(0,-620) 33(0,-640) 34(0,-660) 35(0,-680) 36(0,-700) 37(0,-720) 38(0,-740) 39(0,-760) 40(0,-780) 41(0,-800) 42(0,-820) 43(0,-840) 44(0,-860) 45(0,-880) 46(0,-900) 47(0,-920) 48(0,-940) 49(0,-960) 50(0,-980) 51(0,-1000) 52(0,-1020) 53(0,-1040) 54(0,-1060) 55(0,-1080) 56(0,-1100) 57(0,-1120) 58(0,-1140) 59(0,-1160) 60(0,-1180) 61(0,-1200) 62(0,-1220) 63(0,-1240) 64(0,-1260) 65(0,-1280) 66(0,-1300) 67(0,-1320) 68(0,-1340) 69(0,-1360) 70(0,-1380) 71(0,-1400) 72(0,-1420) 73(0,-1440) 74(0,-1460) 75(0,-1480) 76(0,-1500) 77(0,-1520) 78(0,-1540) 79(0,-1560) 80(0,-1580) 81(0,-1600) 163(1825,-1600) 164(1825,-1580) 165(1825,-1560) 166(1825,-1540) 167(1825,-1520) 168(1825,-1500) 169(1825,-1480) 170(1825,-1460) 171(1825,-1440) 172(1825,-1420) 173(1825,-1400) 174(1825,-1380) 175(1825,-1360) 176(1825,-1340) 177(1825,-1320) 178(1825,-1300) 179(1825,-1280) 180(1825,-1260) 181(1825,-1240) 182(1825,-1220) 183(1825,-1200) 184(1825,-1180) 185(1825,-1160) 186(1825,-1140) 187(1825,-1120) 188(1825,-1100) 189(1825,-1080) 190(1825,-1060) 191(1825,-1040) 192(1825,-1020) 193(1825,-1000) 194(1825,-980) 195(1825,-960) 196(1825,-940) 197(1825,-920) 198(1825,-900) 199(1825,-880) 200(1825,-860) 201(1825,-840) 202(1825,-820) 203(1825,-800) 204(1825,-780) 205(1825,-760) 206(1825,-740) 207(1825,-720) 208(1825,-700) 209(1825,-680) 210(1825,-660) 211(1825,-640) 212(1825,-620) 213(1825,-600) 214(1825,-580) 215(1825,-560) 216(1825,-540) 217(1825,-520) 218(1825,-500) 219(1825,-480) 220(1825,-460) 221(1825,-440) 222(1825,-420) 223(1825,-400) 224(1825,-380) 225(1825,-360) 226(1825,-340) 227(1825,-320) 228(1825,-300) 229(1825,-280) 230(1825,-260) 231(1825,-240) 232(1825,-220) 233(1825,-200) 234(1825,-180) 235(1825,-160) 236(1825,-140) 237(1825,-120) 238(1825,-100) 239(1825,-80) 240(1825,-60) 241(1825,-40) 242(1825,-20) 243(1825,0)
  oval 12x75 smd: 82(113,-1712) 83(133,-1712) 84(153,-1712) 85(173,-1712) 86(193,-1712) 87(213,-1712) 88(233,-1712) 89(253,-1712) 90(273,-1712) 91(293,-1712) 92(313,-1712) 93(333,-1712) 94(353,-1712) 95(373,-1712) 96(393,-1712) 97(413,-1712) 98(433,-1712) 99(453,-1712) 100(473,-1712) 101(493,-1712) 102(513,-1712) 103(533,-1712) 104(553,-1712) 105(573,-1712) 106(593,-1712) 107(613,-1712) 108(633,-1712) 109(653,-1712) 110(673,-1712) 111(693,-1712) 112(713,-1712) 113(733,-1712) 114(753,-1712) 115(773,-1712) 116(793,-1712) 117(813,-1712) 118(833,-1712) 119(853,-1712) 120(873,-1712) 121(893,-1712) 122(913,-1712) 123(933,-1712) 124(953,-1712) 125(973,-1712) 126(993,-1712) 127(1013,-1712) 128(1033,-1712) 129(1053,-1712) 130(1073,-1712) 131(1093,-1712) 132(1113,-1712) 133(1133,-1712) 134(1153,-1712) 135(1173,-1712) 136(1193,-1712) 137(1213,-1712) 138(1233,-1712) 139(1253,-1712) 140(1273,-1712) 141(1293,-1712) 142(1313,-1712) 143(1333,-1712) 144(1353,-1712) 145(1373,-1712) 146(1393,-1712) 147(1413,-1712) 148(1433,-1712) 149(1453,-1712) 150(1473,-1712) 151(1493,-1712) 152(1513,-1712) 153(1533,-1712) 154(1553,-1712) 155(1573,-1712) 156(1593,-1712) 157(1613,-1712) 158(1633,-1712) 159(1653,-1712) 160(1673,-1712) 161(1693,-1712) 162(1713,-1712) 244(1713,113) 245(1693,113) 246(1673,113) 247(1653,113) 248(1633,113) 249(1613,113) 250(1593,113) 251(1573,113) 252(1553,113) 253(1533,113) 254(1513,113) 255(1493,113) 256(1473,113) 257(1453,113) 258(1433,113) 259(1413,113) 260(1393,113) 261(1373,113) 262(1353,113) 263(1333,113) 264(1313,113) 265(1293,113) 266(1273,113) 267(1253,113) 268(1233,113) 269(1213,113) 270(1193,113) 271(1173,113) 272(1153,113) 273(1133,113) 274(1113,113) 275(1093,113) 276(1073,113) 277(1053,113) 278(1033,113) 279(1013,113) 280(993,113) 281(973,113) 282(953,113) 283(933,113) 284(913,113) 285(893,113) 286(873,113) 287(853,113) 288(833,113) 289(813,113) 290(793,113) 291(773,113) 292(753,113) 293(733,113) 294(713,113) 295(693,113) 296(673,113) 297(653,113) 298(633,113) 299(613,113) 300(593,113) 301(573,113) 302(553,113) 303(533,113) 304(513,113) 305(493,113) 306(473,113) 307(453,113) 308(433,113) 309(413,113) 310(393,113) 311(373,113) 312(353,113) 313(333,113) 314(313,113) 315(293,113) 316(273,113) 317(253,113) 318(233,113) 319(213,113) 320(193,113) 321(173,113) 322(153,113) 323(133,113) 324(113,113)

## TAPE364-10 [mil]
pads (364):
  oval 75x5 smd: 1(0,0) 2(0,-10) 3(0,-20) 4(0,-30) 5(0,-40) 6(0,-50) 7(0,-60) 8(0,-70) 9(0,-80) 10(0,-90) 11(0,-100) 12(0,-110) 13(0,-120) 14(0,-130) 15(0,-140) 16(0,-150) 17(0,-160) 18(0,-170) 19(0,-180) 20(0,-190) 21(0,-200) 22(0,-210) 23(0,-220) 24(0,-230) 25(0,-240) 26(0,-250) 27(0,-260) 28(0,-270) 29(0,-280) 30(0,-290) 31(0,-300) 32(0,-310) 33(0,-320) 34(0,-330) 35(0,-340) 36(0,-350) 37(0,-360) 38(0,-370) 39(0,-380) 40(0,-390) 41(0,-400) 42(0,-410) 43(0,-420) 44(0,-430) 45(0,-440) 46(0,-450) 47(0,-460) 48(0,-470) 49(0,-480) 50(0,-490) 51(0,-500) 52(0,-510) 53(0,-520) 54(0,-530) 55(0,-540) 56(0,-550) 57(0,-560) 58(0,-570) 59(0,-580) 60(0,-590) 61(0,-600) 62(0,-610) 63(0,-620) 64(0,-630) 65(0,-640) 66(0,-650) 67(0,-660) 68(0,-670) 69(0,-680) 70(0,-690) 71(0,-700) 72(0,-710) 73(0,-720) 74(0,-730) 75(0,-740) 76(0,-750) 77(0,-760) 78(0,-770) 79(0,-780) 80(0,-790) 81(0,-800) 82(0,-810) 83(0,-820) 84(0,-830) 85(0,-840) 86(0,-850) 87(0,-860) 88(0,-870) 89(0,-880) 90(0,-890) 91(0,-900) 183(1125,-900) 184(1125,-890) 185(1125,-880) 186(1125,-870) 187(1125,-860) 188(1125,-850) 189(1125,-840) 190(1125,-830) 191(1125,-820) 192(1125,-810) 193(1125,-800) 194(1125,-790) 195(1125,-780) 196(1125,-770) 197(1125,-760) 198(1125,-750) 199(1125,-740) 200(1125,-730) 201(1125,-720) 202(1125,-710) 203(1125,-700) 204(1125,-690) 205(1125,-680) 206(1125,-670) 207(1125,-660) 208(1125,-650) 209(1125,-640) 210(1125,-630) 211(1125,-620) 212(1125,-610) 213(1125,-600) 214(1125,-590) 215(1125,-580) 216(1125,-570) 217(1125,-560) 218(1125,-550) 219(1125,-540) 220(1125,-530) 221(1125,-520) 222(1125,-510) 223(1125,-500) 224(1125,-490) 225(1125,-480) 226(1125,-470) 227(1125,-460) 228(1125,-450) 229(1125,-440) 230(1125,-430) 231(1125,-420) 232(1125,-410) 233(1125,-400) 234(1125,-390) 235(1125,-380) 236(1125,-370) 237(1125,-360) 238(1125,-350) 239(1125,-340) 240(1125,-330) 241(1125,-320) 242(1125,-310) 243(1125,-300) 244(1125,-290) 245(1125,-280) 246(1125,-270) 247(1125,-260) 248(1125,-250) 249(1125,-240) 250(1125,-230) 251(1125,-220) 252(1125,-210) 253(1125,-200) 254(1125,-190) 255(1125,-180) 256(1125,-170) 257(1125,-160) 258(1125,-150) 259(1125,-140) 260(1125,-130) 261(1125,-120) 262(1125,-110) 263(1125,-100) 264(1125,-90) 265(1125,-80) 266(1125,-70) 267(1125,-60) 268(1125,-50) 269(1125,-40) 270(1125,-30) 271(1125,-20) 272(1125,-10) 273(1125,0)
  oval 5x75 smd: 92(113,-1012) 93(123,-1012) 94(133,-1012) 95(143,-1012) 96(153,-1012) 97(163,-1012) 98(173,-1012) 99(183,-1012) 100(193,-1012) 101(203,-1012) 102(213,-1012) 103(223,-1012) 104(233,-1012) 105(243,-1012) 106(253,-1012) 107(263,-1012) 108(273,-1012) 109(283,-1012) 110(293,-1012) 111(303,-1012) 112(313,-1012) 113(323,-1012) 114(333,-1012) 115(343,-1012) 116(353,-1012) 117(363,-1012) 118(373,-1012) 119(383,-1012) 120(393,-1012) 121(403,-1012) 122(413,-1012) 123(423,-1012) 124(433,-1012) 125(443,-1012) 126(453,-1012) 127(463,-1012) 128(473,-1012) 129(483,-1012) 130(493,-1012) 131(503,-1012) 132(513,-1012) 133(523,-1012) 134(533,-1012) 135(543,-1012) 136(553,-1012) 137(563,-1012) 138(573,-1012) 139(583,-1012) 140(593,-1012) 141(603,-1012) 142(613,-1012) 143(623,-1012) 144(633,-1012) 145(643,-1012) 146(653,-1012) 147(663,-1012) 148(673,-1012) 149(683,-1012) 150(693,-1012) 151(703,-1012) 152(713,-1012) 153(723,-1012) 154(733,-1012) 155(743,-1012) 156(753,-1012) 157(763,-1012) 158(773,-1012) 159(783,-1012) 160(793,-1012) 161(803,-1012) 162(813,-1012) 163(823,-1012) 164(833,-1012) 165(843,-1012) 166(853,-1012) 167(863,-1012) 168(873,-1012) 169(883,-1012) 170(893,-1012) 171(903,-1012) 172(913,-1012) 173(923,-1012) 174(933,-1012) 175(943,-1012) 176(953,-1012) 177(963,-1012) 178(973,-1012) 179(983,-1012) 180(993,-1012) 181(1003,-1012) 182(1013,-1012) 274(1013,113) 275(1003,113) 276(993,113) 277(983,113) 278(973,113) 279(963,113) 280(953,113) 281(943,113) 282(933,113) 283(923,113) 284(913,113) 285(903,113) 286(893,113) 287(883,113) 288(873,113) 289(863,113) 290(853,113) 291(843,113) 292(833,113) 293(823,113) 294(813,113) 295(803,113) 296(793,113) 297(783,113) 298(773,113) 299(763,113) 300(753,113) 301(743,113) 302(733,113) 303(723,113) 304(713,113) 305(703,113) 306(693,113) 307(683,113) 308(673,113) 309(663,113) 310(653,113) 311(643,113) 312(633,113) 313(623,113) 314(613,113) 315(603,113) 316(593,113) 317(583,113) 318(573,113) 319(563,113) 320(553,113) 321(543,113) 322(533,113) 323(523,113) 324(513,113) 325(503,113) 326(493,113) 327(483,113) 328(473,113) 329(463,113) 330(453,113) 331(443,113) 332(433,113) 333(423,113) 334(413,113) 335(403,113) 336(393,113) 337(383,113) 338(373,113) 339(363,113) 340(353,113) 341(343,113) 342(333,113) 343(323,113) 344(313,113) 345(303,113) 346(293,113) 347(283,113) 348(273,113) 349(263,113) 350(253,113) 351(243,113) 352(233,113) 353(223,113) 354(213,113) 355(203,113) 356(193,113) 357(183,113) 358(173,113) 359(163,113) 360(153,113) 361(143,113) 362(133,113) 363(123,113) 364(113,113)

## TAPE364-20 [mil]
pads (364):
  oval 75x12 smd: 1(0,0) 2(0,-20) 3(0,-40) 4(0,-60) 5(0,-80) 6(0,-100) 7(0,-120) 8(0,-140) 9(0,-160) 10(0,-180) 11(0,-200) 12(0,-220) 13(0,-240) 14(0,-260) 15(0,-280) 16(0,-300) 17(0,-320) 18(0,-340) 19(0,-360) 20(0,-380) 21(0,-400) 22(0,-420) 23(0,-440) 24(0,-460) 25(0,-480) 26(0,-500) 27(0,-520) 28(0,-540) 29(0,-560) 30(0,-580) 31(0,-600) 32(0,-620) 33(0,-640) 34(0,-660) 35(0,-680) 36(0,-700) 37(0,-720) 38(0,-740) 39(0,-760) 40(0,-780) 41(0,-800) 42(0,-820) 43(0,-840) 44(0,-860) 45(0,-880) 46(0,-900) 47(0,-920) 48(0,-940) 49(0,-960) 50(0,-980) 51(0,-1000) 52(0,-1020) 53(0,-1040) 54(0,-1060) 55(0,-1080) 56(0,-1100) 57(0,-1120) 58(0,-1140) 59(0,-1160) 60(0,-1180) 61(0,-1200) 62(0,-1220) 63(0,-1240) 64(0,-1260) 65(0,-1280) 66(0,-1300) 67(0,-1320) 68(0,-1340) 69(0,-1360) 70(0,-1380) 71(0,-1400) 72(0,-1420) 73(0,-1440) 74(0,-1460) 75(0,-1480) 76(0,-1500) 77(0,-1520) 78(0,-1540) 79(0,-1560) 80(0,-1580) 81(0,-1600) 82(0,-1620) 83(0,-1640) 84(0,-1660) 85(0,-1680) 86(0,-1700) 87(0,-1720) 88(0,-1740) 89(0,-1760) 90(0,-1780) 91(0,-1800) 183(2025,-1800) 184(2025,-1780) 185(2025,-1760) 186(2025,-1740) 187(2025,-1720) 188(2025,-1700) 189(2025,-1680) 190(2025,-1660) 191(2025,-1640) 192(2025,-1620) 193(2025,-1600) 194(2025,-1580) 195(2025,-1560) 196(2025,-1540) 197(2025,-1520) 198(2025,-1500) 199(2025,-1480) 200(2025,-1460) 201(2025,-1440) 202(2025,-1420) 203(2025,-1400) 204(2025,-1380) 205(2025,-1360) 206(2025,-1340) 207(2025,-1320) 208(2025,-1300) 209(2025,-1280) 210(2025,-1260) 211(2025,-1240) 212(2025,-1220) 213(2025,-1200) 214(2025,-1180) 215(2025,-1160) 216(2025,-1140) 217(2025,-1120) 218(2025,-1100) 219(2025,-1080) 220(2025,-1060) 221(2025,-1040) 222(2025,-1020) 223(2025,-1000) 224(2025,-980) 225(2025,-960) 226(2025,-940) 227(2025,-920) 228(2025,-900) 229(2025,-880) 230(2025,-860) 231(2025,-840) 232(2025,-820) 233(2025,-800) 234(2025,-780) 235(2025,-760) 236(2025,-740) 237(2025,-720) 238(2025,-700) 239(2025,-680) 240(2025,-660) 241(2025,-640) 242(2025,-620) 243(2025,-600) 244(2025,-580) 245(2025,-560) 246(2025,-540) 247(2025,-520) 248(2025,-500) 249(2025,-480) 250(2025,-460) 251(2025,-440) 252(2025,-420) 253(2025,-400) 254(2025,-380) 255(2025,-360) 256(2025,-340) 257(2025,-320) 258(2025,-300) 259(2025,-280) 260(2025,-260) 261(2025,-240) 262(2025,-220) 263(2025,-200) 264(2025,-180) 265(2025,-160) 266(2025,-140) 267(2025,-120) 268(2025,-100) 269(2025,-80) 270(2025,-60) 271(2025,-40) 272(2025,-20) 273(2025,0)
  oval 12x75 smd: 92(113,-1912) 93(133,-1912) 94(153,-1912) 95(173,-1912) 96(193,-1912) 97(213,-1912) 98(233,-1912) 99(253,-1912) 100(273,-1912) 101(293,-1912) 102(313,-1912) 103(333,-1912) 104(353,-1912) 105(373,-1912) 106(393,-1912) 107(413,-1912) 108(433,-1912) 109(453,-1912) 110(473,-1912) 111(493,-1912) 112(513,-1912) 113(533,-1912) 114(553,-1912) 115(573,-1912) 116(593,-1912) 117(613,-1912) 118(633,-1912) 119(653,-1912) 120(673,-1912) 121(693,-1912) 122(713,-1912) 123(733,-1912) 124(753,-1912) 125(773,-1912) 126(793,-1912) 127(813,-1912) 128(833,-1912) 129(853,-1912) 130(873,-1912) 131(893,-1912) 132(913,-1912) 133(933,-1912) 134(953,-1912) 135(973,-1912) 136(993,-1912) 137(1013,-1912) 138(1033,-1912) 139(1053,-1912) 140(1073,-1912) 141(1093,-1912) 142(1113,-1912) 143(1133,-1912) 144(1153,-1912) 145(1173,-1912) 146(1193,-1912) 147(1213,-1912) 148(1233,-1912) 149(1253,-1912) 150(1273,-1912) 151(1293,-1912) 152(1313,-1912) 153(1333,-1912) 154(1353,-1912) 155(1373,-1912) 156(1393,-1912) 157(1413,-1912) 158(1433,-1912) 159(1453,-1912) 160(1473,-1912) 161(1493,-1912) 162(1513,-1912) 163(1533,-1912) 164(1553,-1912) 165(1573,-1912) 166(1593,-1912) 167(1613,-1912) 168(1633,-1912) 169(1653,-1912) 170(1673,-1912) 171(1693,-1912) 172(1713,-1912) 173(1733,-1912) 174(1753,-1912) 175(1773,-1912) 176(1793,-1912) 177(1813,-1912) 178(1833,-1912) 179(1853,-1912) 180(1873,-1912) 181(1893,-1912) 182(1913,-1912) 274(1913,113) 275(1893,113) 276(1873,113) 277(1853,113) 278(1833,113) 279(1813,113) 280(1793,113) 281(1773,113) 282(1753,113) 283(1733,113) 284(1713,113) 285(1693,113) 286(1673,113) 287(1653,113) 288(1633,113) 289(1613,113) 290(1593,113) 291(1573,113) 292(1553,113) 293(1533,113) 294(1513,113) 295(1493,113) 296(1473,113) 297(1453,113) 298(1433,113) 299(1413,113) 300(1393,113) 301(1373,113) 302(1353,113) 303(1333,113) 304(1313,113) 305(1293,113) 306(1273,113) 307(1253,113) 308(1233,113) 309(1213,113) 310(1193,113) 311(1173,113) 312(1153,113) 313(1133,113) 314(1113,113) 315(1093,113) 316(1073,113) 317(1053,113) 318(1033,113) 319(1013,113) 320(993,113) 321(973,113) 322(953,113) 323(933,113) 324(913,113) 325(893,113) 326(873,113) 327(853,113) 328(833,113) 329(813,113) 330(793,113) 331(773,113) 332(753,113) 333(733,113) 334(713,113) 335(693,113) 336(673,113) 337(653,113) 338(633,113) 339(613,113) 340(593,113) 341(573,113) 342(553,113) 343(533,113) 344(513,113) 345(493,113) 346(473,113) 347(453,113) 348(433,113) 349(413,113) 350(393,113) 351(373,113) 352(353,113) 353(333,113) 354(313,113) 355(293,113) 356(273,113) 357(253,113) 358(233,113) 359(213,113) 360(193,113) 361(173,113) 362(153,113) 363(133,113) 364(113,113)